# EAGLE library part DECADE-MCP6004 (library DECADE-libraries20151104)
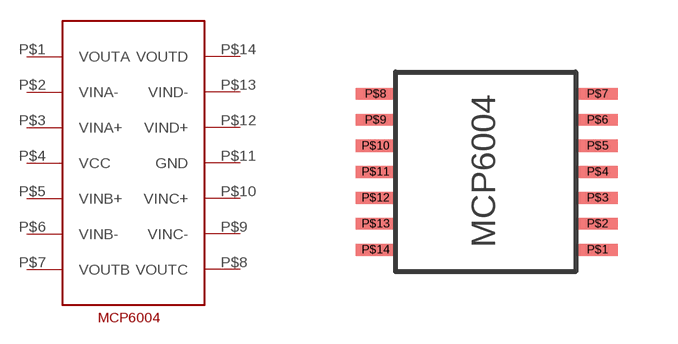
[diagram p6: symbol with the pads of DECADE-MCP6003; footprint DECADE-MCP6003]

Designator prefix -

## DECADE-MCP6004  [DECADE-MCP6003]
P$1  VOUTA
P$2  VINA-
P$3  VINA+
P$4  VCC
P$5  VINB+
P$6  VINB-
P$7  VOUTB
P$8  VOUTC
P$9  VINC-
P$10  VINC+
P$11  GND
P$12  VIND+
P$13  VIND-
P$14  VOUTD

## Footprint DECADE-MCP6003 (pad centres in mm)
smd 1 x 0.3: P$1 2.75,-2.05; P$2 2.75,-1.4; P$3 2.75,-0.75; P$4 2.75,-0.1; P$5 2.75,0.55; P$6 2.75,1.2; P$7 2.75,1.85; P$8 -2.8,1.85; P$9 -2.8,1.2; P$10 -2.8,0.55; P$11 -2.8,-0.1; P$12 -2.8,-0.75; P$13 -2.8,-1.4; P$14 -2.8,-2.05